# Altium footprint library 0527451097.PcbLib: 1 footprints
Each footprint in its own frame and in the unit in brackets; x right, y up, seen from the top. Pads: shape width x height; smd on the part's side, far side on the other; paste and mask are expansions set on the pad; w line width, h text height; cw(c..) or ccw(c..) is an arc to the next point about the centre after c.
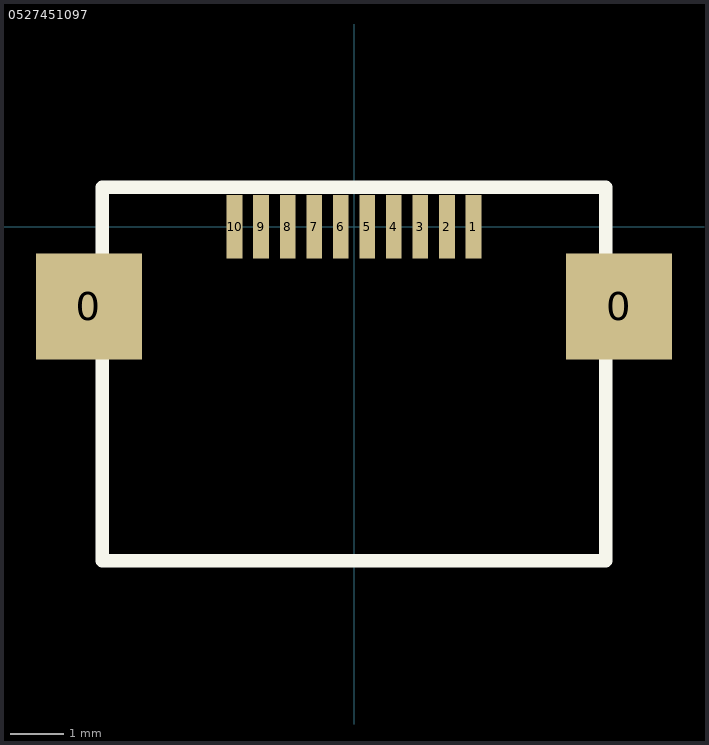
[diagram p0: the footprint, top view; thin cyan lines are the x and y axes]

## 0527451097 [mm]
pads (12):
  rect 2x2 smd: 0(-5,-1.5) 0(5,-1.5)
  rect 0.3x1.2 smd: 1(2.25,0) 2(1.75,0) 3(1.25,0) 4(0.75,0) 5(0.25,0) 6(-0.25,0) 7(-0.75,0) 8(-1.25,0) 9(-1.75,0) 10(-2.25,0)
Top Overlay:
  lines w0.254: -4.75,-6.3 4.75,-6.3 4.75,0.75 -1.35,0.75 -4.75,0.75 -4.75,-6.3
3D body: height 2, standoff 0, extent -5.55,-6.1 5.55,0.3